# Altium schematic symbol library 53047-0310.SchLib: 1 symbol
Pins are listed as number, name and electrical type; pins without a type are passive.

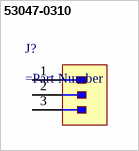
[diagram p0: symbol 53047-0310]

## 53047-0310
designator J?
=Description
pins: 1, 2, 3